# Altium footprint library PCB Library.PcbLib: 45 footprints (part 3 of 3)
Each footprint in its own frame and in the unit in brackets; x right, y up, seen from the top. Pads: shape width x height; smd on the part's side, far side on the other; paste and mask are expansions set on the pad; w line width, h text height; cw(c..) or ccw(c..) is an arc to the next point about the centre after c.
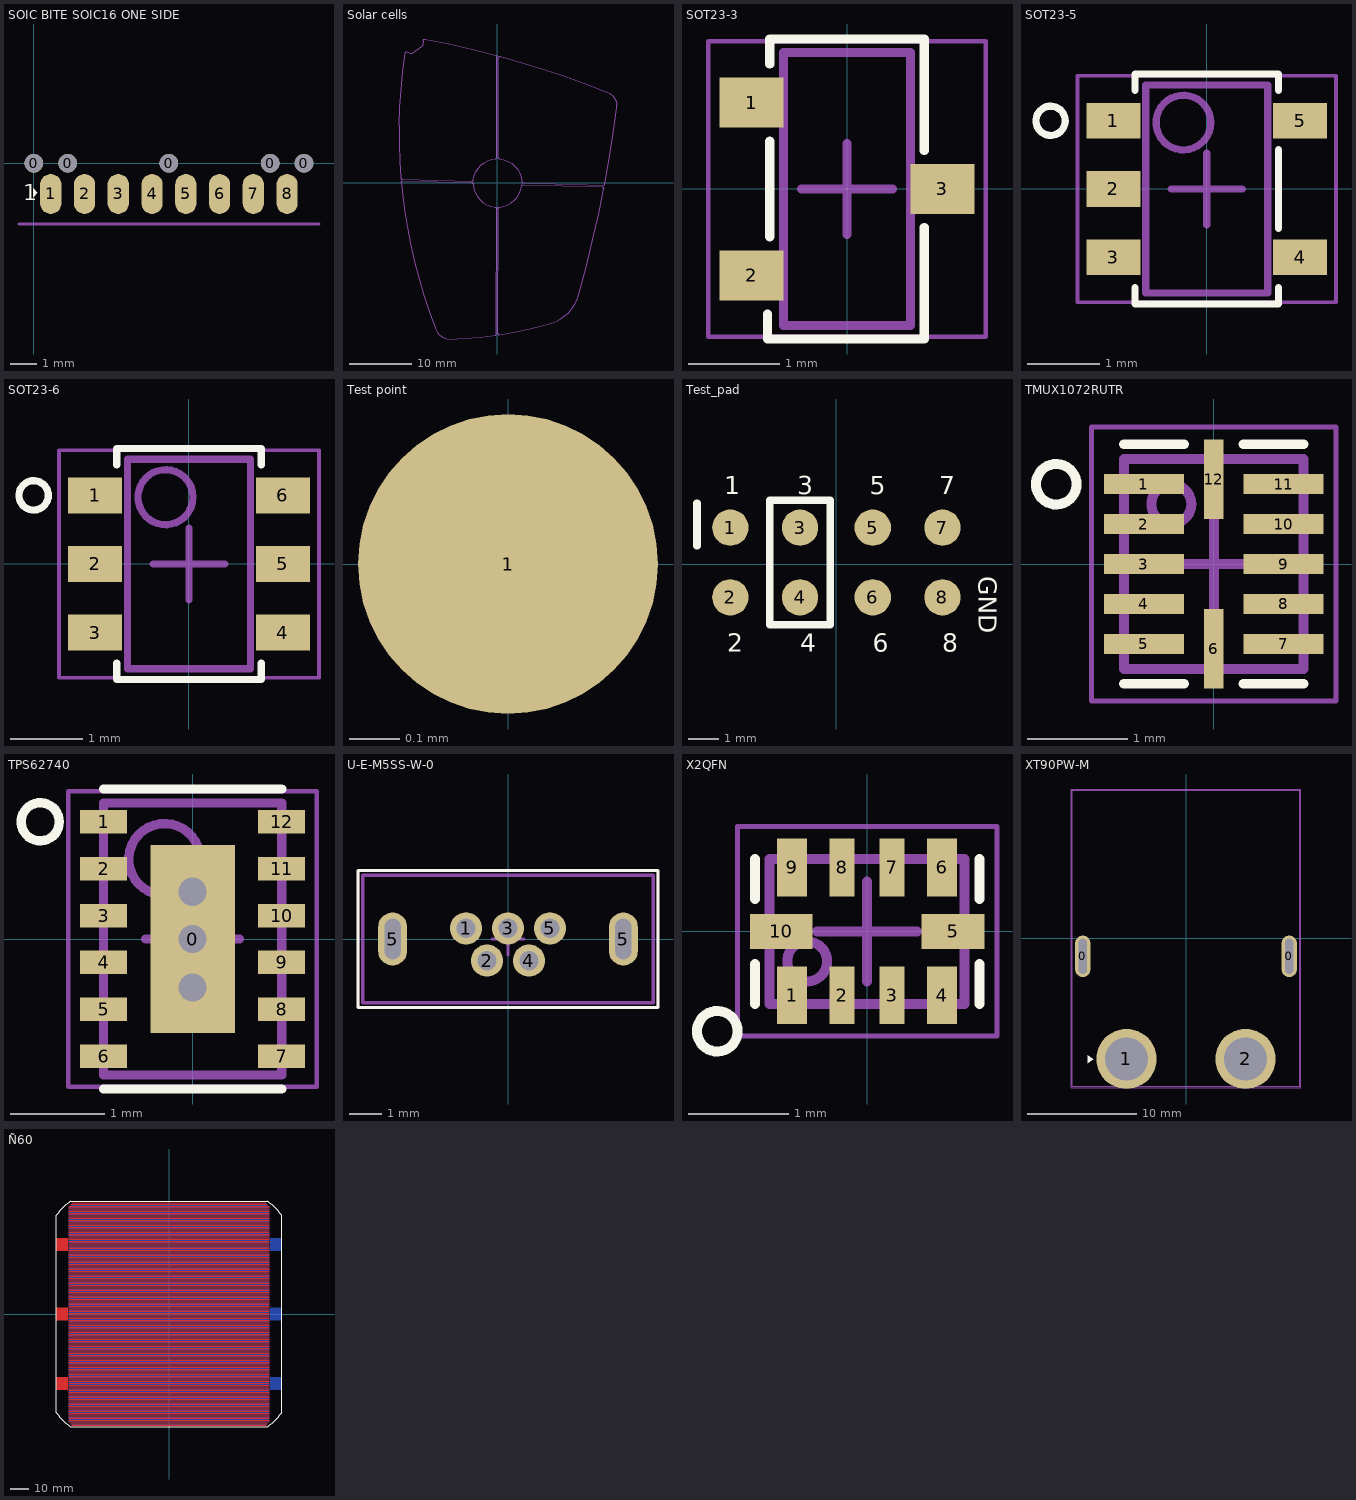
[diagram p2: the footprints below, top view; thin cyan lines are the x and y axes]

## SOIC BITE SOIC16 ONE SIDE [mil]
pads (13):
  round 27.56 hole 27.56 unplated mask+1.97: 0(0,0) 0(50,0) 0(200,0) 0(350,0) 0(400,0)
  rrect100% 31.5x59.06 smd mask+1.97: 1(25,-45.47) 2(75,-45.47) 3(125,-45.47) 4(175,-45.47) 5(225,-45.47) 6(275,-45.47) 7(325,-45.47) 8(375,-45.47)
Top Overlay:
  region: -0.98,-36.91 -0.98,-50.69 4.92,-43.8
  text "1" at -15.75,-55.12 h23.62
Mechanical 15:
  lines w5: -22.05,-90 422.24,-90
  text "Board edge" at 107.28,-119.09 h19.68

## Solar cells [mm]
height 0.16
Top Paste:
  lines w0.3: -14.678,0.749 -14.676,20.516 ; -14.079,0.15 -14.076,-8.236 ; -13.48,20.666 -13.477,0.749 ; -12.879,-13.477 -12.879,0.15 ; -12.28,0.599 -12.28,21.564 ; -11.683,-17.82 -11.683,0.15 ; -11.089,22.762 -11.084,0.599 ; -10.483,-21.414 -10.483,0 ; -9.885,0.599 -9.885,22.463 ; -9.286,-24.11 -9.286,0 ; -8.687,0.449 -8.685,22.313 ; -8.088,-24.709 -8.086,0 ; -7.489,0.449 -7.489,22.013 ; -6.89,-24.709 -6.889,0 ; -6.291,0.449 -6.291,21.714 ; -5.691,-24.709 -5.69,-0.15 ; -5.101,0.449 -5.101,21.414 ; -4.493,-0.15 -4.493,-24.709 ; -3.894,0.599 -3.894,21.115 ; -3.295,-24.559 -3.295,-2.246 ; -2.696,2.995 -2.696,20.815 ; -2.097,-24.409 -2.097,-3.444 ; -1.498,3.744 -1.498,20.516 ; -0.898,-24.259 -0.898,-3.893 ; -0.299,4.043 -0.299,20.216 ; 0.898,-23.96 0.898,-3.893 ; 0.898,3.893 0.898,19.917 ; 2.097,-23.81 2.097,-3.444 ; 2.097,3.444 2.097,19.617 ; 3.295,-23.511 3.295,-2.246 ; 3.295,2.246 3.294,19.318 ; 4.493,-0.449 4.493,-23.361 ; 4.493,18.868 4.493,0.15 ; 5.69,-23.062 5.699,-0.449 ; 5.699,0.15 5.699,18.569 ; 6.889,-0.449 6.89,-22.762 ; 6.89,0 6.89,18.12 ; 8.086,-0.449 8.088,-22.463 ; 8.086,0 8.086,17.82 ; 9.285,-22.013 9.286,-0.599 ; 9.285,17.371 9.286,0 ; 10.483,-21.264 10.483,-0.599 ; 10.483,0 10.484,16.922 ; 11.678,16.472 11.68,-0.15 ; 11.682,-0.599 11.686,-20.067 ; 12.879,-17.82 12.879,-0.599 ; 12.879,-0.15 12.88,16.173 ; 14.076,-13.328 14.076,-0.749 ; 14.076,15.724 14.079,-0.15 ; 15.275,-8.685 15.277,-0.749 ; 15.277,-0.15 15.277,15.275 ; 16.472,-2.845 16.472,-0.749 ; 16.475,-0.299 16.475,14.825 ; 17.671,3.145 17.673,14.376 ; 18.868,11.231 18.868,12.879
Bottom Paste:
  lines w0.3: -15.277,0.749 -15.275,15.275 ; -14.678,0.15 -14.676,-4.942 ; -14.079,0.749 -14.079,20.666 ; -13.48,0.15 -13.477,-11.081 ; -12.881,0.599 -12.881,20.965 ; -12.281,-15.873 -12.28,0.15 ; -11.683,0.599 -11.68,22.762 ; -11.081,0 -11.08,-19.767 ; -10.484,0.599 -10.484,22.612 ; -9.885,0 -9.884,-23.062 ; -9.286,0.599 -9.286,22.313 ; -8.687,-24.559 -8.687,0 ; -8.088,0.449 -8.088,22.163 ; -7.488,-24.709 -7.488,0 ; -6.89,0.449 -6.89,21.863 ; -6.291,-24.709 -6.291,0 ; -5.691,0.449 -5.691,21.564 ; -5.101,-0.15 -5.092,-24.709 ; -4.493,0.449 -4.493,21.264 ; -3.894,-24.559 -3.894,-0.749 ; -3.295,2.246 -3.295,21.115 ; -2.696,-2.995 -2.695,-24.409 ; -2.097,3.444 -2.097,20.666 ; -1.498,-24.259 -1.498,-3.744 ; -0.898,3.893 -0.898,20.366 ; -0.3,-24.15 -0.299,-4.043 ; 0.299,-24.11 0.299,-4.043 ; 0.299,4.043 0.299,20.067 ; 1.498,-23.96 1.498,-3.744 ; 1.498,3.744 1.498,19.767 ; 2.695,2.995 2.696,19.467 ; 2.696,-23.66 2.696,-2.995 ; 3.893,-23.361 3.894,-1.048 ; 3.894,1.048 3.893,19.018 ; 5.092,-23.211 5.092,-0.449 ; 5.092,0.15 5.092,18.719 ; 6.289,-22.912 6.289,-0.449 ; 6.289,0.15 6.289,18.27 ; 7.488,-22.612 7.488,-0.449 ; 7.488,0 7.488,17.97 ; 8.685,-22.163 8.687,-0.449 ; 8.685,0 8.685,17.521 ; 9.884,-21.714 9.885,-0.599 ; 9.884,17.221 9.885,0 ; 11.081,-20.815 11.083,-0.599 ; 11.081,16.772 11.083,-0.15 ; 12.28,-19.168 12.28,-0.599 ; 12.28,16.323 12.281,-0.15 ; 13.477,-15.724 13.477,-0.749 ; 13.477,-0.15 13.477,15.873 ; 14.676,-10.932 14.678,-0.749 ; 14.676,-0.15 14.676,15.424 ; 15.873,-5.69 15.876,-0.749 ; 15.873,-0.15 15.873,14.975 ; 17.072,0 17.072,14.526 ; 18.272,7.188 18.272,13.777
Mechanical 15:
  drawing of 241 lines, arcs and shapes, not listed

## SOT23-3 [mm] "Standard SMD component"
height 1.1
pads (3):
  rect 0.7x0.55 smd mask+0.05: 1(-1.05,0.95) 2(-1.05,-0.95) 3(1.05,0)
Top Overlay:
  lines w0.1: -0.875,-1.375 -0.875,-1.65 0.85,-1.65 0.85,-0.425 ; -0.85,-0.525 -0.85,0.525 ; -0.85,1.375 -0.85,1.65 0.85,1.65 0.85,0.425
Mechanical 13:
  lines w0.1: -0.7,-1.5 0.7,-1.5 0.7,1.5 -0.7,1.5 -0.7,-1.5
Mechanical 15:
  lines w0.05: -1.525,-1.625 1.525,-1.625 1.525,1.625 -1.525,1.625 -1.525,-1.625
  lines w0.1: -0.5,0 0.5,0 ; 0,-0.5 0,0.5
3D body: height 1.1, standoff 0.05, extent -0.7,-1.5 0.7,1.5

## SOT23-5 [mm] "Standard SMD component"
height 1.26
pads (5):
  rect 0.75x0.5 smd mask+0.05: 1(-1.3,0.95) 2(-1.3,0) 3(-1.3,-0.95) 4(1.3,-0.95) 5(1.3,0.95)
Top Overlay:
  circle w0.1: c-2.175,0.95 r0.203
  lines w0.1: -1,-1.375 -1,-1.6 1,-1.6 1,-1.375 ; -1,1.375 -1,1.6 1,1.6 1,1.375 ; 1,-0.55 1,0.55
Mechanical 13:
  circle w0.1: c-0.325,0.925 r0.381
  lines w0.1: -0.85,-1.45 0.85,-1.45 0.85,1.45 -0.85,1.45 -0.85,-1.45
Mechanical 15:
  lines w0.05: -1.8,-1.575 1.8,-1.575 1.8,1.575 -1.8,1.575 -1.8,-1.575
  lines w0.1: -0.5,0 0.5,0 ; 0,-0.5 0,0.5
3D body: height 1.26, standoff 0.1, extent -0.85,-1.45 0.85,1.45

## SOT23-6 [mm] "Standard SMD component"
height 1.26
pads (6):
  rect 0.75x0.5 smd mask+0.05: 1(-1.3,0.95) 2(-1.3,0) 3(-1.3,-0.95) 4(1.3,-0.95) 5(1.3,0) 6(1.3,0.95)
Top Overlay:
  circle w0.1: c-2.15,0.95 r0.203
  lines w0.1: -1,-1.375 -1,-1.6 1,-1.6 1,-1.375 ; -1,1.375 -1,1.6 1,1.6 1,1.375
Mechanical 13:
  circle w0.1: c-0.325,0.925 r0.381
  lines w0.1: -0.85,-1.45 0.85,-1.45 0.85,1.45 -0.85,1.45 -0.85,-1.45
Mechanical 15:
  lines w0.05: -1.8,-1.575 1.8,-1.575 1.8,1.575 -1.8,1.575 -1.8,-1.575
  lines w0.1: -0.5,0 0.5,0 ; 0,-0.5 0,0.5
3D body: height 1.26, standoff 0.1, extent -0.85,-1.45 0.85,1.45

## Test point [mm] "Describes itself"
pads (1):
  round 0.6 smd mask+0.05: 1(0,0)

## Test_pad [mm]
pads (8):
  round 1.2 smd: 1(-3.5,1.2) 2(-3.5,-1.1) 3(-1.2,1.2) 4(-1.2,-1.1) 5(1.2,1.2) 6(1.2,-1.1) 7(3.5,1.2) 8(3.5,-1.1)
Top Overlay:
  lines w0.254: -4.6,0.6 -4.6,2 ; -2.2,-2 -2.2,2.1 -0.2,2.1 -0.2,-2 -2.2,-2
  text "GND" at 4.7,-0.4 h0.6
  text "8" at 3.5,-2.9 h0.6
  text "6" at 1.2,-2.9 h0.6
  text "2" at -3.6,-2.9 h0.6
  text "4" at -1.2,-2.9 h0.6
  text "7" at 3.4,2.3 h0.6
  text "5" at 1.1,2.3 h0.6
  text "3" at -1.3,2.3 h0.6
  text "1" at -3.7,2.3 h0.6

## TMUX1072RUTR [mm] "PQFN 12-Leads"
height 0.55
pads (12):
  rect 0.8x0.2 smd mask+0.05: 1(-0.7,0.8) 2(-0.7,0.4) 3(-0.7,0) 4(-0.7,-0.4) 5(-0.7,-0.8) 7(0.7,-0.8) 8(0.7,-0.4) 9(0.7,0) 10(0.7,0.4) 11(0.7,0.8)
  rect 0.2x0.8 smd mask+0.05: 6(0,-0.85) 12(0,0.85)
Top Overlay:
  circle w0.1: c-1.578,0.8 r0.203
  lines w0.1: -0.9,-1.2 -0.3,-1.2 ; -0.9,1.2 -0.3,1.2 ; 0.3,-1.2 0.9,-1.2 ; 0.3,1.2 0.9,1.2
Mechanical 13:
  circle w0.1: c-0.425,0.6 r0.2
  lines w0.1: -0.9,-1.05 -0.9,1.05 0.9,1.05 0.9,-1.05 -0.9,-1.05
Mechanical 15:
  lines w0.05: -1.225,-1.375 -1.225,1.375 1.225,1.375 1.225,-1.375 -1.225,-1.375
  lines w0.1: -0.5,0 0.5,0 ; 0,-0.5 0,0.5
3D body: height 0.55, standoff 0, extent -0.9,-1.05 0.9,1.05

## TPS62740 [mm] "DC/DC voltage regulator"
height 0.8
pads (13):
  rect 0.9x2 smd paste-0.45 mask+0.05: 0(0,0)
  rect 0.5x0.25 smd mask+0.05: 1(-0.95,1.25) 2(-0.95,0.75) 3(-0.95,0.25) 4(-0.95,-0.25) 5(-0.95,-0.75) 6(-0.95,-1.25) 7(0.95,-1.25) 8(0.95,-0.75) 9(0.95,-0.25) 10(0.95,0.25) 11(0.95,0.75) 12(0.95,1.25)
via 0,0.505 diameter 0.6 hole 0.3
via 0,0 diameter 0.6 hole 0.3
via 0,-0.518 diameter 0.6 hole 0.3
Top Overlay:
  circle w0.1: c-1.625,1.25 r0.203
  lines w0.1: -0.95,-1.6 0.95,-1.6 ; -0.95,1.6 0.95,1.6
Top Paste:
  rectangle: -0.4,-1 0.4,-0.1
  rectangle: -0.4,0.1 0.4,1
Mechanical 13:
  circle w0.1: c-0.3,0.85 r0.381
  lines w0.1: -0.95,-1.45 -0.95,1.45 0.95,1.45 0.95,-1.45 -0.95,-1.45
Mechanical 15:
  lines w0.05: -1.325,-1.575 -1.325,1.575 1.325,1.575 1.325,-1.575 -1.325,-1.575
  lines w0.1: -0.5,0 0.5,0 ; 0,-0.5 0,0.5
3D body: height 0.8, standoff 0, extent -0.95,-1.45 0.95,1.45

## U-E-M5SS-W-0 [mm] "micro-USB port"
pads (7):
  round 1 hole 0.6 mask+0.25: 1(-1.3,0.33) 2(-0.65,-0.67) 3(0,0.33) 4(0.65,-0.67) 5(1.3,0.33)
  oval 0.9x1.65 hole 0.5 slot 1.25 at 90 deg mask+0.25: 5(-3.575,0) 5(3.575,0)
Top Overlay:
  lines w0.1: -4.65,-2.125 4.65,-2.125 4.65,2.125 -3.7,2.125 -4.375,2.125 -4.65,2.125 -4.65,-2.125
Mechanical 13:
  lines w0.1: -4.5,-1.975 4.5,-1.975 4.5,1.975 -4.5,1.975 -4.5,-1.975
Mechanical 15:
  lines w0.05: -4.625,-2.1 -4.625,2.1 4.625,2.1 4.625,-2.1 -4.625,-2.1
  lines w0.1: -0.5,0 0.5,0 ; 0,-0.5 0,0.5
3D body: height 6, standoff 0, extent -4.5,-1.975 4.5,1.975

## X2QFN [mm] "Standard package"
height 0.4
pads (10):
  rect 0.3x0.58 smd mask+0.05: 1(-0.75,-0.64) 4(0.75,-0.64) 6(0.75,0.64) 9(-0.75,0.64)
  rect 0.25x0.58 smd mask+0.05: 2(-0.25,-0.64) 3(0.25,-0.64) 7(0.25,0.64) 8(-0.25,0.64)
  rect 0.63x0.35 smd mask+0.05: 5(0.86,0) 10(-0.86,0)
Top Overlay:
  circle w0.1: c-1.5,-1 r0.203
  lines w0.1: -1.125,-0.725 -1.125,-0.325 ; -1.125,0.325 -1.125,0.725 ; 1.125,-0.725 1.125,-0.325 ; 1.125,0.325 1.125,0.725
Mechanical 13:
  circle w0.1: c-0.6,-0.3 r0.2
  lines w0.1: -0.975,-0.725 0.975,-0.725 0.975,0.725 -0.975,0.725 -0.975,-0.725
Mechanical 15:
  lines w0.05: -1.3,-1.05 1.3,-1.05 1.3,1.05 -1.3,1.05 -1.3,-1.05
  lines w0.1: -0.5,0 0.5,0 ; 0,-0.5 0,0.5
3D body: height 0.4, standoff 0.05, extent -0.975,-0.725 0.975,0.725

## XT90PW-M [mm] "Power port"
pads (4):
  oval 1.4x3.8 hole 0.75 slot 3.2 at 90 deg mask+0.05: 0(-9.45,-1.65) 0(9.45,-1.65)
  round 5.5 hole 3.9 mask+0.05: 1(-5.45,-11.05) 2(5.45,-11.05)
Top Overlay:
  region: -9,-10.687 -9,-11.438 -8.5,-11.063
Bottom Overlay:
  region: -9,-10.687 -9,-11.438 -8.5,-11.063
Mechanical 13:
  lines w0.1: -10.4,-13.55 10.4,-13.55 10.4,13.55 -10.4,13.55 -10.4,-13.55
Mechanical 15:
  lines w0.1: -10.525,-13.675 10.525,-13.675 10.525,13.675 -10.525,13.675 -10.525,-13.675
3D body: height 8.4, standoff 0, extent -10.4,-13.55 10.4,13.55

## Ñ60 [mm] "Solar cell"
Top Layer:
  region: -56,3.55 -62.5,3.55 -62.5,-3.55 -56,-3.55
  region: -56,-34.95 -62.5,-34.95 -62.5,-42.05 -56,-42.05
  region: -56,42.05 -62.5,42.05 -62.5,34.95 -56,34.95
  lines w0.3: -55.5,-59.753 55.5,-59.753 ; -55.5,-58.781 55.5,-58.781 ; -55.5,-57.809 55.5,-57.809 ; -55.5,-56.838 55.5,-56.838 ; -55.5,-55.866 55.5,-55.866 ; -55.5,-54.895 55.5,-54.895 ; -55.5,-53.923 55.5,-53.923 ; -55.5,-52.951 55.5,-52.951 ; -55.5,-51.98 55.5,-51.98 ; -55.5,-51.008 55.5,-51.008 ; -55.5,-50.036 55.5,-50.036 ; -55.5,-49.065 55.5,-49.065 ; -55.5,-48.093 55.5,-48.093 ; -55.5,-47.122 55.5,-47.122 ; -55.5,-46.15 55.5,-46.15 ; -55.5,-45.178 55.5,-45.178 ; -55.5,-44.207 55.5,-44.207 ; -55.5,-43.236 55.5,-43.236 ; -55.5,-42.263 55.5,-42.263 ; -55.5,-41.292 55.5,-41.292 ; -55.5,-40.321 55.5,-40.321 ; -55.5,-39.349 55.5,-39.349 ; -55.5,-38.377 55.5,-38.377 ; -55.5,-37.406 55.5,-37.406 ; -55.5,-36.434 55.5,-36.434 ; -55.5,-35.463 55.5,-35.463 ; -55.5,-34.491 55.5,-34.491 ; -55.5,-33.519 55.5,-33.519 ; -55.5,-32.548 55.5,-32.548 ; -55.5,-31.576 55.5,-31.576 ; -55.5,-30.604 55.5,-30.604 ; -55.5,-29.633 55.5,-29.633 ; -55.5,-28.661 55.5,-28.661 ; -55.5,-27.69 55.5,-27.69 ; -55.5,-26.718 55.5,-26.718 ; -55.5,-25.746 55.5,-25.746 ; -55.5,-24.775 55.5,-24.775 ; -55.5,-23.804 55.5,-23.804 ; -55.5,-22.831 55.5,-22.831 ; -55.5,-21.86 55.5,-21.86 ; -55.5,-20.889 55.5,-20.889 ; -55.5,-19.917 55.5,-19.917 ; -55.5,-18.945 55.5,-18.945 ; -55.5,-17.974 55.5,-17.974 ; -55.5,-17.002 55.5,-17.002 ; -55.5,-16.031 55.5,-16.031 ; -55.5,-15.059 55.5,-15.059 ; -55.5,-14.087 55.5,-14.087 ; -55.5,-13.116 55.5,-13.116 ; -55.5,-12.144 55.5,-12.144 ; -55.5,-11.172 55.5,-11.172 ; -55.5,-10.201 55.5,-10.201 ; -55.5,-9.229 55.5,-9.229 ; -55.5,-8.258 55.5,-8.258 ; -55.5,-7.286 55.5,-7.286 ; -55.5,-6.315 55.5,-6.315 ; -55.5,-5.343 55.5,-5.343 ; -55.5,-4.372 55.5,-4.372 ; -55.5,-3.399 55.5,-3.399 ; -55.5,-2.428 55.5,-2.428 ; -55.5,-1.457 55.5,-1.457 ; -55.5,-0.485 55.5,-0.485 ; -55.5,0.486 55.5,0.486 ; -55.5,1.457 55.5,1.457 ; -55.5,2.428 55.5,2.428 ; -55.5,3.4 55.5,3.4 ; -55.5,4.372 55.5,4.372 ; -55.5,5.343 55.5,5.343 ; -55.5,6.315 55.5,6.315 ; -55.5,7.286 55.5,7.286 ; -55.5,8.258 55.5,8.258 ; -55.5,9.23 55.5,9.23 ; -55.5,10.201 55.5,10.201 ; -55.5,11.172 55.5,11.172 ; -55.5,12.145 55.5,12.145 ; -55.5,13.116 55.5,13.116 ; -55.5,14.088 55.5,14.088 ; -55.5,15.059 55.5,15.059 ; -55.5,16.031 55.5,16.031 ; -55.5,17.002 55.5,17.002 ; -55.5,17.974 55.5,17.974 ; -55.5,18.945 55.5,18.945 ; -55.5,19.918 55.5,19.918 ; -55.5,20.889 55.5,20.889 ; -55.5,21.86 55.5,21.86 ; -55.5,22.832 55.5,22.832 ; -55.5,23.804 55.5,23.804 ; -55.5,24.775 55.5,24.775 ; -55.5,25.747 55.5,25.747 ; -55.5,26.718 55.5,26.718 ; -55.5,27.69 55.5,27.69 ; -55.5,28.662 55.5,28.662 ; -55.5,29.633 55.5,29.633 ; -55.5,30.605 55.5,30.605 ; -55.5,31.577 55.5,31.577 ; -55.5,32.548 55.5,32.548 ; -55.5,33.52 55.5,33.52 ; -55.5,34.491 55.5,34.491 ; -55.5,35.463 55.5,35.463 ; -55.5,36.434 55.5,36.434 ; -55.5,37.406 55.5,37.406 ; -55.5,38.377 55.5,38.377 ; -55.5,39.349 55.5,39.349 ; -55.5,40.321 55.5,40.321 ; -55.5,41.292 55.5,41.292 ; -55.5,42.264 55.5,42.264 ; -55.5,43.236 55.5,43.236 ; -55.5,44.207 55.5,44.207 ; -55.5,45.179 55.5,45.179 ; -55.5,46.15 55.5,46.15 ; -55.5,47.122 55.5,47.122 ; -55.5,48.094 55.5,48.094 ; -55.5,49.065 55.5,49.065 ; -55.5,50.037 55.5,50.037 ; -55.5,51.009 55.5,51.009 ; -55.5,51.98 55.5,51.98 ; -55.5,52.952 55.5,52.952 ; -55.5,53.923 55.5,53.923 ; -55.5,54.895 55.5,54.895 ; -55.5,55.866 55.5,55.866 ; -55.5,56.838 55.5,56.838 ; -55.5,57.809 55.5,57.809 ; -55.5,58.782 55.5,58.782 ; -55.5,59.753 55.5,59.753 ; -54.5,-60.724 54.5,-60.724 ; -54.5,60.724 54.5,60.724 ; -54,-61.695 54,-61.695 ; -54,61.696 54,61.696
Bottom Layer:
  rectangle: 56,34.95 62.5,42.05
  rectangle: 56,-3.55 62.5,3.55
  rectangle: 56,-42.05 62.5,-34.95
  lines w0.3: -55.5,-59.267 55.5,-59.267 ; -55.5,-58.296 55.5,-58.296 ; -55.5,-57.324 55.5,-57.324 ; -55.5,-56.352 55.5,-56.352 ; -55.5,-55.381 55.5,-55.381 ; -55.5,-54.41 55.5,-54.41 ; -55.5,-53.437 55.5,-53.437 ; -55.5,-52.466 55.5,-52.466 ; -55.5,-51.495 55.5,-51.495 ; -55.5,-50.523 55.5,-50.523 ; -55.5,-49.551 55.5,-49.551 ; -55.5,-48.58 55.5,-48.58 ; -55.5,-47.608 55.5,-47.608 ; -55.5,-46.637 55.5,-46.637 ; -55.5,-45.665 55.5,-45.665 ; -55.5,-44.693 55.5,-44.693 ; -55.5,-43.722 55.5,-43.722 ; -55.5,-42.75 55.5,-42.75 ; -55.5,-41.778 55.5,-41.778 ; -55.5,-40.807 55.5,-40.807 ; -55.5,-39.835 55.5,-39.835 ; -55.5,-38.864 55.5,-38.864 ; -55.5,-37.892 55.5,-37.892 ; -55.5,-36.921 55.5,-36.921 ; -55.5,-35.949 55.5,-35.949 ; -55.5,-34.978 55.5,-34.978 ; -55.5,-34.005 55.5,-34.005 ; -55.5,-33.034 55.5,-33.034 ; -55.5,-32.063 55.5,-32.063 ; -55.5,-31.091 55.5,-31.091 ; -55.5,-30.119 55.5,-30.119 ; -55.5,-29.148 55.5,-29.148 ; -55.5,-28.176 55.5,-28.176 ; -55.5,-27.205 55.5,-27.205 ; -55.5,-26.233 55.5,-26.233 ; -55.5,-25.261 55.5,-25.261 ; -55.5,-24.29 55.5,-24.29 ; -55.5,-23.318 55.5,-23.318 ; -55.5,-22.346 55.5,-22.346 ; -55.5,-21.375 55.5,-21.375 ; -55.5,-20.403 55.5,-20.403 ; -55.5,-19.432 55.5,-19.432 ; -55.5,-18.46 55.5,-18.46 ; -55.5,-17.488 55.5,-17.488 ; -55.5,-16.517 55.5,-16.517 ; -55.5,-15.546 55.5,-15.546 ; -55.5,-14.573 55.5,-14.573 ; -55.5,-13.602 55.5,-13.602 ; -55.5,-12.631 55.5,-12.631 ; -55.5,-11.659 55.5,-11.659 ; -55.5,-10.687 55.5,-10.687 ; -55.5,-9.716 55.5,-9.716 ; -55.5,-8.744 55.5,-8.744 ; -55.5,-7.773 55.5,-7.773 ; -55.5,-6.801 55.5,-6.801 ; -55.5,-5.829 55.5,-5.829 ; -55.5,-4.858 55.5,-4.858 ; -55.5,-3.886 55.5,-3.886 ; -55.5,-2.914 55.5,-2.914 ; -55.5,-1.943 55.5,-1.943 ; -55.5,-0.971 55.5,-0.971 ; -55.5,0 55.5,0 ; -55.5,0.972 55.5,0.972 ; -55.5,1.943 55.5,1.943 ; -55.5,2.915 55.5,2.915 ; -55.5,3.887 55.5,3.887 ; -55.5,4.858 55.5,4.858 ; -55.5,5.83 55.5,5.83 ; -55.5,6.801 55.5,6.801 ; -55.5,7.773 55.5,7.773 ; -55.5,8.744 55.5,8.744 ; -55.5,9.716 55.5,9.716 ; -55.5,10.687 55.5,10.687 ; -55.5,11.659 55.5,11.659 ; -55.5,12.631 55.5,12.631 ; -55.5,13.602 55.5,13.602 ; -55.5,14.574 55.5,14.574 ; -55.5,15.546 55.5,15.546 ; -55.5,16.517 55.5,16.517 ; -55.5,17.489 55.5,17.489 ; -55.5,18.46 55.5,18.46 ; -55.5,19.432 55.5,19.432 ; -55.5,20.404 55.5,20.404 ; -55.5,21.375 55.5,21.375 ; -55.5,22.347 55.5,22.347 ; -55.5,23.319 55.5,23.319 ; -55.5,24.29 55.5,24.29 ; -55.5,25.262 55.5,25.262 ; -55.5,26.233 55.5,26.233 ; -55.5,27.205 55.5,27.205 ; -55.5,28.176 55.5,28.176 ; -55.5,29.148 55.5,29.148 ; -55.5,30.119 55.5,30.119 ; -55.5,31.091 55.5,31.091 ; -55.5,32.063 55.5,32.063 ; -55.5,33.034 55.5,33.034 ; -55.5,34.006 55.5,34.006 ; -55.5,34.978 55.5,34.978 ; -55.5,35.949 55.5,35.949 ; -55.5,36.921 55.5,36.921 ; -55.5,37.892 55.5,37.892 ; -55.5,38.864 55.5,38.864 ; -55.5,39.836 55.5,39.836 ; -55.5,40.807 55.5,40.807 ; -55.5,41.778 55.5,41.778 ; -55.5,42.751 55.5,42.751 ; -55.5,43.722 55.5,43.722 ; -55.5,44.694 55.5,44.694 ; -55.5,45.665 55.5,45.665 ; -55.5,46.637 55.5,46.637 ; -55.5,47.608 55.5,47.608 ; -55.5,48.58 55.5,48.58 ; -55.5,49.551 55.5,49.551 ; -55.5,50.524 55.5,50.524 ; -55.5,51.495 55.5,51.495 ; -55.5,52.466 55.5,52.466 ; -55.5,53.438 55.5,53.438 ; -55.5,54.41 55.5,54.41 ; -55.5,55.381 55.5,55.381 ; -55.5,56.353 55.5,56.353 ; -55.5,57.324 55.5,57.324 ; -55.5,58.296 55.5,58.296 ; -55.5,59.268 55.5,59.268 ; -54.5,-60.239 54.5,-60.239 ; -54.5,60.239 54.5,60.239 ; -54,-61.21 54,-61.21 ; -54,61.21 54,61.21
Top Overlay:
  lines w0.1: -62.55,-54.75 -62.55,54.75 ; -62.549,-54.749 ccw(c0,0) -54.749,-62.549 ; -62.549,54.749 cw(c0,0) -54.749,62.549 ; -54.75,62.55 54.75,62.55 ; 54.749,-62.549 ccw(c0,0) 62.549,-54.749 ; 54.749,62.548 cw(c0,0) 62.548,54.749 ; 62.55,-54.75 62.55,54.75 ; -54.75,-62.55 54.75,-62.55 -54.75,-62.55